# Altium integrated library Integrated_Library - 03.05.18 - 01.24.IntLib: 1 symbol
Pins are listed as number, name and electrical type; pins without a type are passive.

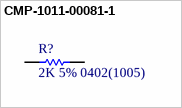
[diagram p0: symbol CMP-1011-00081-1]

## CMP-1011-00081-1
designator R?, comment 2K 5% 0402(1005)
2K 0.063W 5% 0402 (1005 Metric)  SMD; Case-EIA: 0402; Case-Metric: 1005; Value: 2000.00 Ohm; Power: 0.063 W; Technology: SMT; Tolerance: 5 %
footprint RESC0402(1005)_L (Chip Resistor, Body 1.0x0.5mm, IPC High Density)
footprint RESC0402(1005)_N (Chip Resistor, Body 1.0x0.5mm, IPC Medium Density)
footprint RESC0402(1005)_M (Chip Resistor, Body 1.0x0.5mm, IPC Low Density)
pins: 1, 2
1 alternate drawing of the same symbol